# Altium schematic symbol library IC_FET_Driver.SchLib: 3 symbols
Pins are listed as number, name and electrical type; pins without a type are passive.

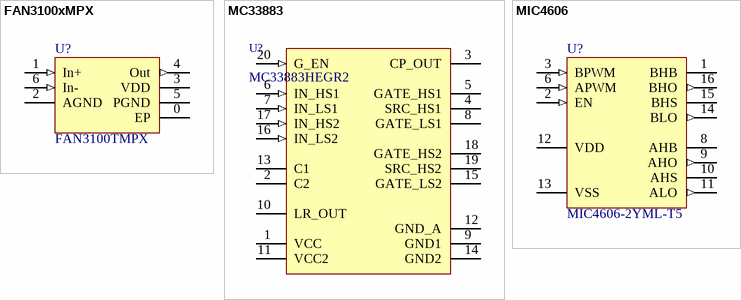
[diagram p0: symbols FAN3100xMPX to MIC4606]

## FAN3100xMPX
designator U?, comment FAN3100TMPX
Single 2 A High-Speed, Low-Side Gate Driver; HelpURL: https://www.fairchildsemi.com/datasheets/FA/FAN3100C.pdf; Name: FAN3100TMPX; Supplier: https://www.digikey.com/product-detail/en/on-semiconductor/FAN3100TMPX/FAN3100TMPXCT-ND/1739708; BOMString: FAN3100TMPX
footprint DFN-6-0.65-2x2_novia (QFN, 6-Leads, Body 2,00x2,00mm, Pitch 0,65mm, Thermal Pad 1,55x0,86mm, IPC Medium Density)
footprint DFN-6-0.65-2x2_2via (QFN, 6-Leads, Body 2,00x2,00mm, Pitch 0,65mm, Thermal Pad 1,55x0,86mm, IPC Medium Density)
footprint DFN-6-0.65-2x2_4via (QFN, 6-Leads, Body 2,00x2,00mm, Pitch 0,65mm, Thermal Pad 1,55x0,86mm, IPC Medium Density)
footprint DFN-6-0.65-2x2_8via (QFN, 6-Leads, Body 2,00x2,00mm, Pitch 0,65mm, Thermal Pad 1,55x0,86mm, IPC Medium Density)
pins: 0 EP, 1 In+ (in), 2 AGND (power), 3 VDD (power), 4 Out (out), 5 PGND (power), 6 In- (in)

## MC33883
designator U?, comment MC33883HEGR2
H-Bridge Gate Driver IC; Manufacturer: NXP; Name: MC33883HEGR2; HelpURL: https://www.nxp.com/docs/en/data-sheet/MC33883.pdf; BOMString: MC33883HEGR2
footprint SOIC-20 (SOIC, 20-Leads, Body 12,80x7,50mm, Pitch 1,27mm, IPC Medium Density)
pins: 1 VCC, 2 C2, 3 CP_OUT, 4 SRC_HS1, 5 GATE_HS1, 6 IN_HS1 (in), 7 IN_LS1 (in), 8 GATE_LS1, 9 GND1, 10 LR_OUT, 11 VCC2, 12 GND_A, 13 C1, 14 GND2, 15 GATE_LS2, 16 IN_LS2 (in), 17 IN_HS2 (in), 18 GATE_HS2, 19 SRC_HS2, 20 G_EN (in)

## MIC4606
designator U?, comment MIC4606-2YML-T5
85V Full-Bridge MOSFET Drivers with Adaptive Dead Time and Shoot-Through Protection; Name: MIC4606-2YML-T5; BOMString: MIC4606-2YML-T5; HelpURL: http://ww1.microchip.com/downloads/en/DeviceDoc/MIC4606-Data-Sheet-DS20005604D.pdf; Supplier: https://www.chipdip.ru/product1/8002973823
footprint TSSOP-16-0.65 (TSOP, 16-Leads, Body 5,00x4,40mm, Pitch 0,65mm, Thermal Pad 2,41x2,46mm, IPC Medium Density)
pins: 1 BHB, 2 EN (in), 3 BPWM (in), 6 APWM (in), 8 AHB, 9 AHO (out), 10 AHS, 11 ALO (out), 12 VDD, 13 VSS, 14 BLO (out), 15 BHS, 16 BHO (out)